# EAGLE library part FT2232H (library ftdi)
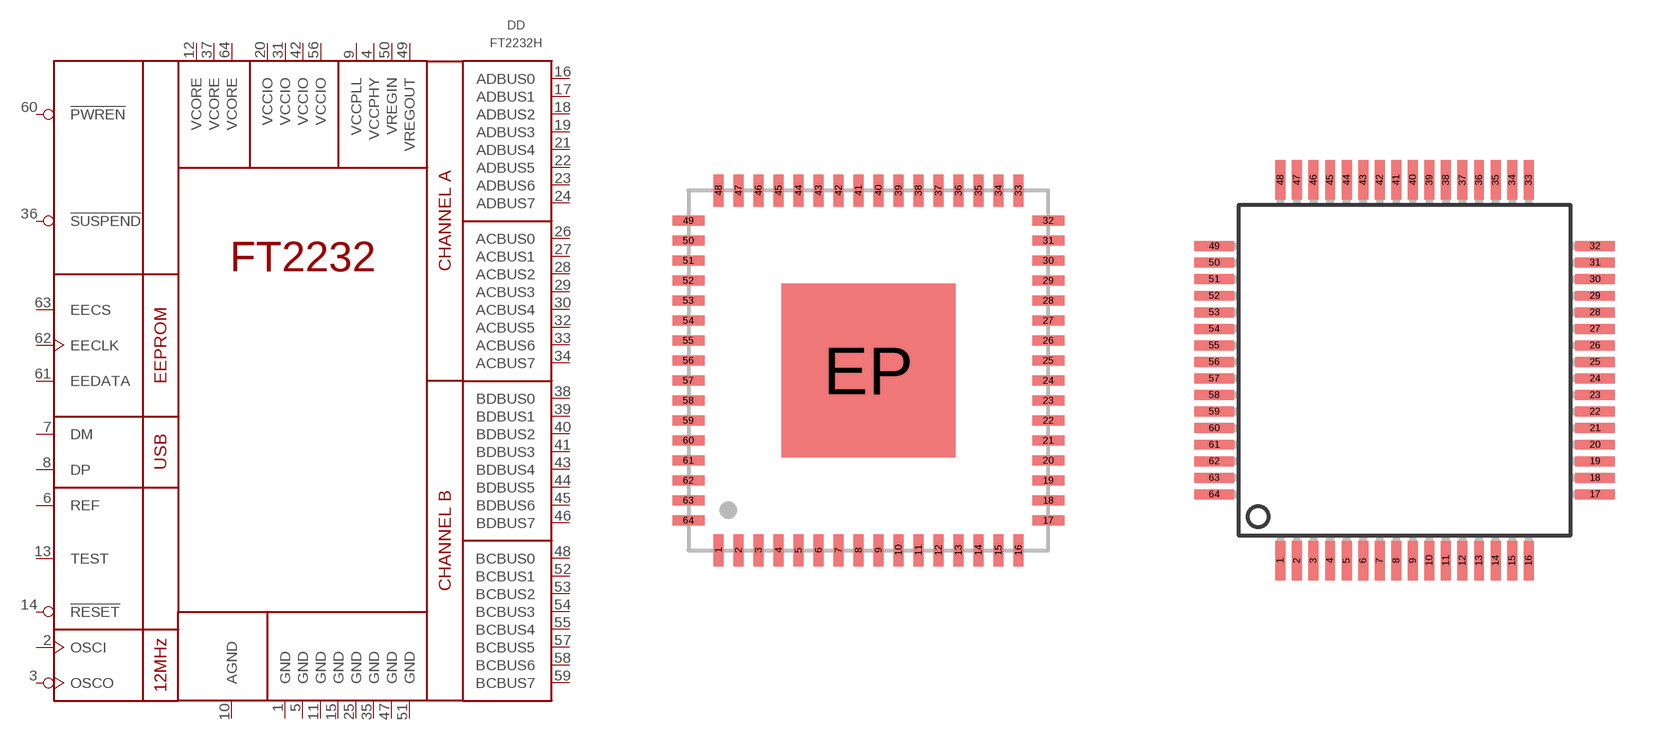
[diagram p0: symbol with the pads of QFN64; footprints QFN64, LQFP64]

Designator prefix DD

## FT2232HQ  [QFN64]
1  GND  pwr
2  OSCI  in
3  OSCO  out
4  VCCPHY  pwr
5  GND  pwr
6  REF  in
7  DM
8  DP
9  VCCPLL  pwr
10  AGND  pwr
11  GND  pwr
12  VCORE  pwr
13  TEST  pwr
14  !RESET  in
15  GND  pwr
16  ADBUS0
17  ADBUS1
18  ADBUS2
19  ADBUS3
20  VCCIO  pwr
21  ADBUS4
22  ADBUS5
23  ADBUS6
24  ADBUS7
25  GND  pwr
26  ACBUS0
27  ACBUS1
28  ACBUS2
29  ACBUS3
30  ACBUS4
31  VCCIO  pwr
32  ACBUS5
33  ACBUS6
34  ACBUS7
35  GND  pwr
36  !SUSPEND  out
37  VCORE  pwr
38  BDBUS0
39  BDBUS1
40  BDBUS2
41  BDBUS3
42  VCCIO  pwr
43  BDBUS4
44  BDBUS5
45  BDBUS6
46  BDBUS7
47  GND  pwr
48  BCBUS0
49  VREGOUT  pwr
50  VREGIN  pwr
51  GND  pwr
52  BCBUS1
53  BCBUS2
54  BCBUS3
55  BCBUS4
56  VCCIO  pwr
57  BCBUS5
58  BCBUS6
59  BCBUS7
60  !PWREN  out
61  EEDATA  in
62  EECLK  out
63  EECS  out
64  VCORE  pwr

## FT2232HL  [LQFP64]
Pads as for QFN64

## Footprint QFN64 (pad centres in mm)
smd 0.25 x 0.8: 1 -3.75,-4.5; 2 -3.25,-4.5; 3 -2.75,-4.5; 4 -2.25,-4.5; 5 -1.75,-4.5; 6 -1.25,-4.5; 7 -0.75,-4.5; 8 -0.25,-4.5; 9 0.25,-4.5; 10 0.75,-4.5; 11 1.25,-4.5; 12 1.75,-4.5; 13 2.25,-4.5; 14 2.75,-4.5; 15 3.25,-4.5; 16 3.75,-4.5; 33 3.75,4.5; 34 3.25,4.5; 35 2.75,4.5; 36 2.25,4.5; 37 1.75,4.5; 38 1.25,4.5; 39 0.75,4.5; 40 0.25,4.5; 41 -0.25,4.5; 42 -0.75,4.5; 43 -1.25,4.5; 44 -1.75,4.5; 45 -2.25,4.5; 46 -2.75,4.5; 47 -3.25,4.5; 48 -3.75,4.5
smd 0.8 x 0.25: 17 4.5,-3.75; 18 4.5,-3.25; 19 4.5,-2.75; 20 4.5,-2.25; 21 4.5,-1.75; 22 4.5,-1.25; 23 4.5,-0.75; 24 4.5,-0.25; 25 4.5,0.25; 26 4.5,0.75; 27 4.5,1.25; 28 4.5,1.75; 29 4.5,2.25; 30 4.5,2.75; 31 4.5,3.25; 32 4.5,3.75; 49 -4.5,3.75; 50 -4.5,3.25; 51 -4.5,2.75; 52 -4.5,2.25; 53 -4.5,1.75; 54 -4.5,1.25; 55 -4.5,0.75; 56 -4.5,0.25; 57 -4.5,-0.25; 58 -4.5,-0.75; 59 -4.5,-1.25; 60 -4.5,-1.75; 61 -4.5,-2.25; 62 -4.5,-2.75; 63 -4.5,-3.25; 64 -4.5,-3.75
smd 4.35 x 4.35: EP 0,0

## Footprint LQFP64 (pad centres in mm)
LQFP64 10 x 10 mm, 64-pin low-profile quad flat package
smd 0.3 x 1.2: 1 -3.75,-5.75; 2 -3.25,-5.75; 3 -2.75,-5.75; 4 -2.25,-5.75; 5 -1.75,-5.75; 6 -1.25,-5.75; 7 -0.75,-5.75; 8 -0.25,-5.75; 9 0.25,-5.75; 10 0.75,-5.75; 11 1.25,-5.75; 12 1.75,-5.75; 13 2.25,-5.75; 14 2.75,-5.75; 15 3.25,-5.75; 16 3.75,-5.75; 33 3.75,5.75; 34 3.25,5.75; 35 2.75,5.75; 36 2.25,5.75; 37 1.75,5.75; 38 1.25,5.75; 39 0.75,5.75; 40 0.25,5.75; 41 -0.25,5.75; 42 -0.75,5.75; 43 -1.25,5.75; 44 -1.75,5.75; 45 -2.25,5.75; 46 -2.75,5.75; 47 -3.25,5.75; 48 -3.75,5.75
smd 1.2 x 0.3: 17 5.75,-3.75; 18 5.75,-3.25; 19 5.75,-2.75; 20 5.75,-2.25; 21 5.75,-1.75; 22 5.75,-1.25; 23 5.75,-0.75; 24 5.75,-0.25; 25 5.75,0.25; 26 5.75,0.75; 27 5.75,1.25; 28 5.75,1.75; 29 5.75,2.25; 30 5.75,2.75; 31 5.75,3.25; 32 5.75,3.75; 49 -5.75,3.75; 50 -5.75,3.25; 51 -5.75,2.75; 52 -5.75,2.25; 53 -5.75,1.75; 54 -5.75,1.25; 55 -5.75,0.75; 56 -5.75,0.25; 57 -5.75,-0.25; 58 -5.75,-0.75; 59 -5.75,-1.25; 60 -5.75,-1.75; 61 -5.75,-2.25; 62 -5.75,-2.75; 63 -5.75,-3.25; 64 -5.75,-3.75